# EAGLE library part MICRO_SD (library rhoban)
ST2S008V1AR1500 http://www.farnell.com/datasheets/359830.pdf http://www.farnell.com/cad/359831.pdf
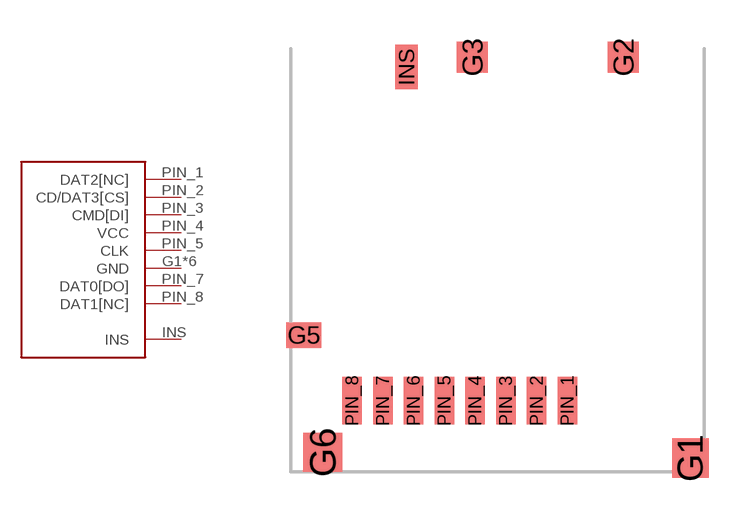
[diagram p14: symbol with the pads of MICRO_SD; footprint MICRO_SD]

Designator prefix -

## MICRO_SD (DATASHEET: micro_sd.pdf; FARNELL_LINK: http://fr.farnell.com/jae/st2s008v1ar1500/connecteur-micro-sd-transflash/dp/1702073?Ntt=ST2S008V1AR1500)  [MICRO_SD]
G1  GND
G2  GND
G3  GND
G5  GND
G6  GND
INS  INS
PIN_1  DAT2[NC]
PIN_2  CD/DAT3[CS]
PIN_3  CMD[DI]
PIN_4  VCC
PIN_5  CLK
PIN_6  GND
PIN_7  DAT0[DO]
PIN_8  DAT1[NC]

## Footprint MICRO_SD (pad centres in mm)
ST2S008V1AR1500 http://www.farnell.com/datasheets/359830.pdf http://www.farnell.com/cad/359831.pdf The tStop zone are voluntary extended because the pdf doesn't seem quite precise.
smd 1.3 x 1.4: G1 7.6,0
smd 1.1 x 1.1: G2 5.2,14.35; G3 -0.2,14.35
smd 1.25 x 0.9: G5 -6.225,4.4
smd 1.4 x 1.4: G6 -5.55,0.2
smd 0.8 x 1.6: INS -2.55,14
smd 0.7 x 1.7: PIN_1 3.2,2.05; PIN_2 2.1,2.05; PIN_3 1,2.05; PIN_4 -0.1,2.05; PIN_5 -1.2,2.05; PIN_6 -2.3,2.05; PIN_7 -3.4,2.05; PIN_8 -4.5,2.05